# Altium footprint library PCB - CAPACITOR - TANTALUM - CAP POL 1411_3528.PCBLIB: 1 footprints
Each footprint in its own frame and in the unit in brackets; x right, y up, seen from the top. Pads: shape width x height; smd on the part's side, far side on the other; paste and mask are expansions set on the pad; w line width, h text height; cw(c..) or ccw(c..) is an arc to the next point about the centre after c.
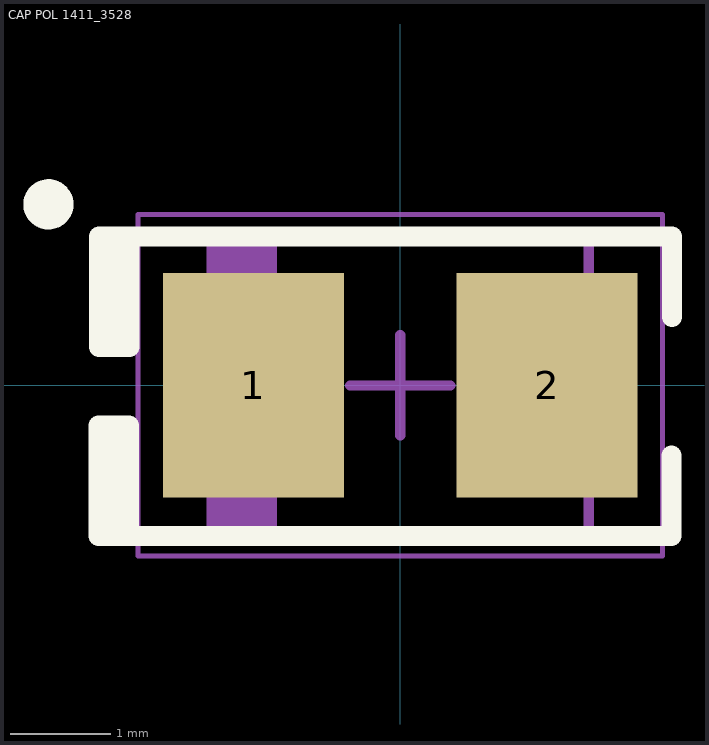
[diagram p0: the footprint, top view; thin cyan lines are the x and y axes]

## CAP POL 1411_3528 [mm] "Molded Capacitor, 2-Leads, Body 3.50x2.80mm, IPC Medium Density"
height 2
pads (2):
  rect 1.8x2.23 smd: 1(-1.46,0) 2(1.46,0)
Top Overlay:
  circle w0.25: c-3.5,1.8 r0.125
  region: -2.995,0.38 -2.995,1.48 -2.695,1.48 -2.695,0.38
  region: -3,-0.4 -3,-1.5 -2.7,-1.5 -2.7,-0.4
  lines w0.2: 2.7,-0.7 2.7,-1.5 -2.7,-1.5 ; 2.705,0.68 2.705,1.48 -2.695,1.48 ; -2.7,-1.5 -3,-1.5 -3,-0.4 -2.7,-0.4 -2.7,-1.5 ; -2.695,1.48 -2.995,1.48 -2.995,0.38 -2.695,0.38 -2.695,1.48
Mechanical 13:
  rectangle: -1.875,-1.45 -1.225,1.45
  lines w0.1: -1.875,-1.45 -1.875,1.45 1.875,1.45 1.875,-1.45 -1.875,-1.45
Mechanical 15:
  lines w0.05: -2.61,-1.7 -2.61,1.7 2.61,1.7 2.61,-1.7 -2.61,-1.7
  lines w0.1: -0.5,0 0.5,0 ; 0,-0.5 0,0.5
3D body "CAP TANT - 1411 - 2.0MM.step": height 2, standoff 0, extent -1.865,-1.45 1.865,1.45